# Altium footprint library TSOT-23-6.PcbLib: 1 footprints
Each footprint in its own frame and in the unit in brackets; x right, y up, seen from the top. Pads: shape width x height; smd on the part's side, far side on the other; paste and mask are expansions set on the pad; w line width, h text height; cw(c..) or ccw(c..) is an arc to the next point about the centre after c.
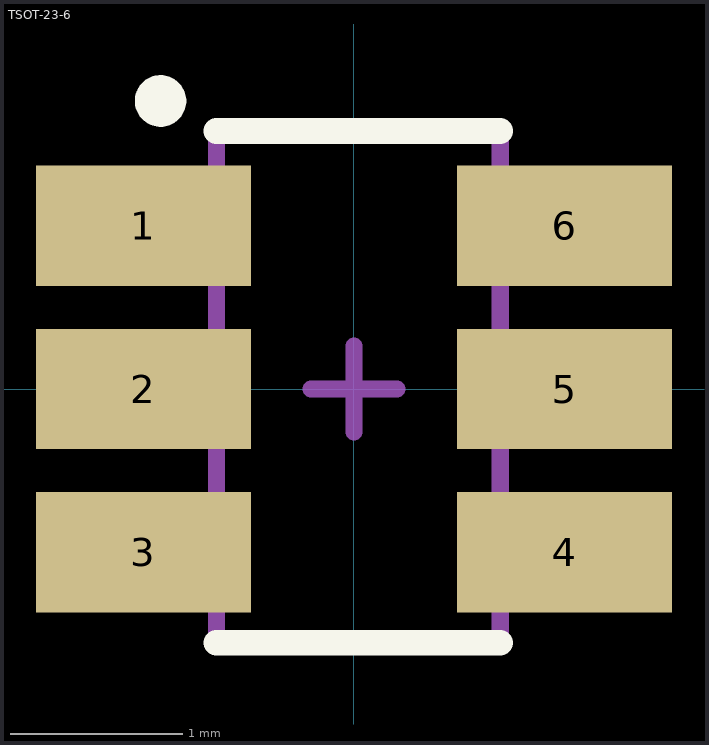
[diagram p0: the footprint, top view; thin cyan lines are the x and y axes]

## TSOT-23-6 [mm]
pads (6):
  rect 1.25x0.7 smd mask+0.051: 1(-1.225,0.95) 2(-1.225,0) 3(-1.225,-0.95) 4(1.225,-0.95) 5(1.225,0) 6(1.225,0.95)
Top Overlay:
  circle w0.15: c-1.125,1.675 r0.075
  lines w0.15: -0.8,-1.475 0.85,-1.475 ; -0.8,1.5 0.85,1.5
Mechanical 13:
  lines w0.1: -0.8,-1.475 0.85,-1.475 0.85,1.5 -0.8,1.5 -0.8,-1.475
Mechanical 15:
  lines w0.1: 0,-0.25 0,0.25 0,0 -0.25,0 0.25,0
3D body "TSOT-23-6.STEP": height 1, standoff 0, extent -1.45,-1.45 1.45,1.45